# Altium footprint library Resistor - Current Sense.PcbLib: 8 footprints
Each footprint in its own frame and in the unit in brackets; x right, y up, seen from the top. Pads: shape width x height; smd on the part's side, far side on the other; paste and mask are expansions set on the pad; w line width, h text height; cw(c..) or ccw(c..) is an arc to the next point about the centre after c.
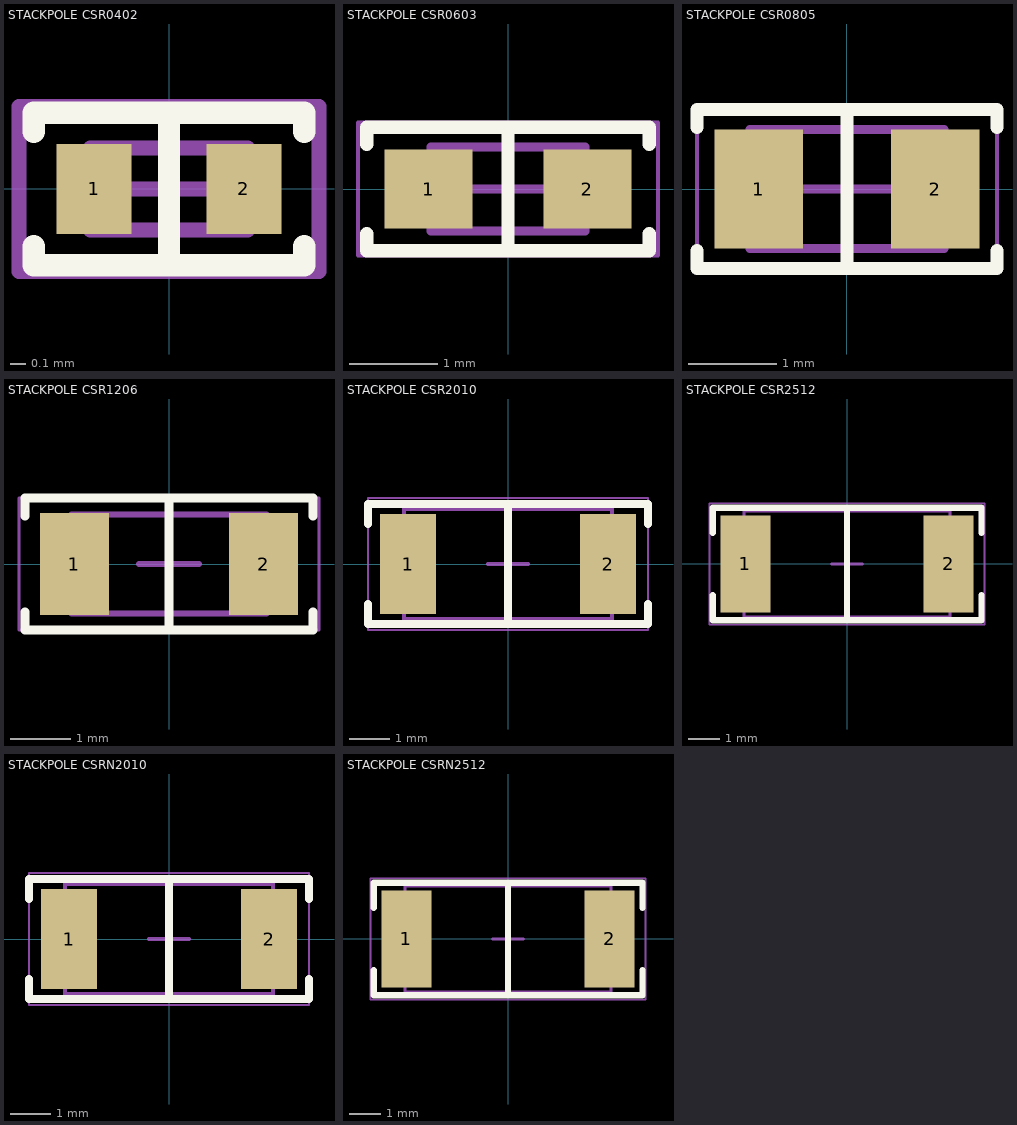
[diagram p0: the footprints below, top view; thin cyan lines are the x and y axes]

## STACKPOLE CSR0402 [mm] "Chip Resistor, 2-Leads, Body 1.0x0.5mm, IPC Medium Density"
height 0.4
pads (2):
  rect 0.5x0.6 smd: 1(-0.5,0) 2(0.5,0)
Top Overlay:
  lines w0.15: -0.9,-0.381 -0.9,-0.508 0.9,-0.508 0.9,-0.381 ; -0.9,0.381 -0.9,0.508 0.9,0.508 0.9,0.381 ; 0,-0.508 0,0.508
Mechanical 13:
  lines w0.1: -0.525,-0.275 -0.525,0.275 0.525,0.275 0.525,-0.275 -0.525,-0.275
Mechanical 15:
  lines w0.1: -0.275,0 0.275,0 ; 0,-0.275 0,0.275 ; -1,-0.55 -1,0.55 1,0.55 1,-0.55 -1,-0.55
3D body "Stackpole CSR0402 Res.STEP": height 0.32, standoff 0, extent -0.525,-0.25 0.525,0.25

## STACKPOLE CSR0603 [mm] "Chip Resistor, 2-Leads, Body 1.60x0.80mm, IPC Medium Density"
height 0.45
pads (2):
  rect 1x0.9 smd: 1(-0.9,0) 2(0.9,0)
Top Overlay:
  lines w0.15: -1.6,-0.508 -1.6,-0.7 1.6,-0.7 1.6,-0.508 ; -1.6,0.508 -1.6,0.7 1.6,0.7 1.6,0.508 ; 0,-0.7 0,0.7
Mechanical 13:
  lines w0.1: -0.875,-0.475 -0.875,0.475 0.875,0.475 0.875,-0.475 -0.875,-0.475
Mechanical 15:
  lines w0.05: -1.7,-0.75 -1.7,0.75 1.7,0.75 1.7,-0.75 -1.7,-0.75
  lines w0.1: -0.475,0 0.475,0 ; 0,-0.475 0,0.475
3D body "Stackpole CSR0603 Res.STEP": height 0.45, standoff 0, extent -0.85,-0.4 0.85,0.4

## STACKPOLE CSR0805 [mm] "Chip Resistor, 2-Leads, Body 2.00x1.25mm, IPC Medium Density"
height 0.7
pads (2):
  rect 1x1.35 smd: 1(-1,0) 2(1,0)
Top Overlay:
  lines w0.15: -1.7,-0.7 -1.7,-0.9 1.7,-0.9 1.7,-0.7 ; -1.7,0.7 -1.7,0.9 1.7,0.9 1.7,0.7 ; 0,-0.9 0,0.9
Mechanical 13:
  lines w0.1: -1.1,-0.675 1.1,-0.675 1.1,0.675 -1.1,0.675 -1.1,-0.675
Mechanical 15:
  lines w0.05: -1.7,-0.95 1.7,-0.95 1.7,0.95 -1.7,0.95 -1.7,-0.95
  lines w0.1: -0.5,0 0.5,0 ; 0,-0.5 0,0.5
3D body "Stackpole CSR0805 Res.STEP": height 0.55, standoff 0, extent -1.05,-0.625 1.05,0.625

## STACKPOLE CSR1206 [mm] "Chip Resistor, 2-Leads, Body 3.13x1.55mm, IPC Medium Density"
height 0.7
pads (2):
  rect 1.15x1.7 smd: 1(-1.575,0) 2(1.575,0)
Top Overlay:
  lines w0.15: -2.4,-0.8 -2.4,-1.1 2.4,-1.1 2.4,-0.8 ; -2.4,0.8 -2.4,1.1 2.4,1.1 2.4,0.8 ; 0,-1.1 0,1.1
Mechanical 13:
  lines w0.1: -1.625,-0.825 1.625,-0.825 1.625,0.825 -1.625,0.825 -1.625,-0.825
Mechanical 15:
  lines w0.05: -2.5,-1.1 2.5,-1.1 2.5,1.1 -2.5,1.1 -2.5,-1.1
  lines w0.1: -0.5,0 0.5,0 ; 0,-0.5 0,0.5
3D body "Stackpole CSR1206 Res.STEP": height 0.55, standoff 0, extent -1.6,-0.775 1.6,0.775

## STACKPOLE CSR2010 [mm] "Chip Resistor, 2-Leads, Body 5.00x2.54mm, IPC Medium Density"
height 0.65
pads (2):
  rect 1.4x2.5 smd: 1(-2.5,0) 2(2.5,0)
Top Overlay:
  lines w0.2: -3.5,-1 -3.5,-1.5 3.5,-1.5 3.5,-1 ; -3.5,1 -3.5,1.5 3.5,1.5 3.5,1 ; 0,-1.5 0,1.5
Mechanical 13:
  lines w0.1: -2.6,-1.37 -2.6,1.37 2.6,1.37 2.6,-1.37 ; -2.6,-1.37 2.6,-1.37 ; -2.6,-1.37 2.6,-1.37
Mechanical 15:
  lines w0.05: -3.5,-1.65 -3.5,1.65 3.5,1.65 3.5,-1.65 -3.5,-1.65
  lines w0.1: -0.5,0 0.5,0 ; 0,-0.5 0,0.5
3D body "Stackpole CSR2010 Res.STEP": height 0.5, standoff 0, extent -2.575,-1.27 2.575,1.27

## STACKPOLE CSR2512 [mm] "Chip Resistor, 2-Leads, Body 6.40x3.20mm, IPC Medium Density"
height 0.65
pads (2):
  rect 1.6x3.1 smd: 1(-3.25,0) 2(3.25,0)
Top Overlay:
  lines w0.2: -4.3,-1 -4.3,-1.8 4.3,-1.8 4.3,-1 ; -4.3,1 -4.3,1.8 4.3,1.8 4.3,1 ; 0,-1.8 0,1.8
Mechanical 13:
  lines w0.1: -3.3,-1.7 -3.3,1.7 3.3,1.7 3.3,-1.7 -3.3,-1.7
Mechanical 15:
  lines w0.05: -4.4,-1.95 -4.4,1.95 4.4,1.95 4.4,-1.95 -4.4,-1.95
  lines w0.1: -0.5,0 0.5,0 ; 0,-0.5 0,0.5
3D body "Stackpole CSR2512 Res.STEP": height 0.5, standoff 0, extent -3.275,-1.6 3.275,1.6

## STACKPOLE CSRN2010 [mm] "Chip Resistor, 2-Leads, Body 5.00x2.54mm, IPC Medium Density"
height 0.65
pads (2):
  rect 1.4x2.5 smd: 1(-2.5,0) 2(2.5,0)
Top Overlay:
  lines w0.2: -3.5,-1 -3.5,-1.5 3.5,-1.5 3.5,-1 ; -3.5,1 -3.5,1.5 3.5,1.5 3.5,1 ; 0,-1.5 0,1.5
Mechanical 13:
  lines w0.1: -2.6,-1.37 -2.6,1.37 2.6,1.37 2.6,-1.37 ; -2.6,-1.37 2.6,-1.37 ; -2.6,-1.37 2.6,-1.37
Mechanical 15:
  lines w0.05: -3.5,-1.65 -3.5,1.65 3.5,1.65 3.5,-1.65 -3.5,-1.65
  lines w0.1: -0.5,0 0.5,0 ; 0,-0.5 0,0.5
3D body "Stackpole CSRN2010 Res.STEP": height 0.6, standoff 0, extent -2.575,-1.225 2.575,1.225

## STACKPOLE CSRN2512 [mm] "Chip Resistor, 2-Leads, Body 6.40x3.20mm, IPC Medium Density"
height 0.65
pads (2):
  rect 1.6x3.1 smd: 1(-3.25,0) 2(3.25,0)
Top Overlay:
  lines w0.2: -4.3,-1 -4.3,-1.8 4.3,-1.8 4.3,-1 ; -4.3,1 -4.3,1.8 4.3,1.8 4.3,1 ; 0,-1.8 0,1.8
Mechanical 13:
  lines w0.1: -3.3,-1.7 -3.3,1.7 3.3,1.7 3.3,-1.7 -3.3,-1.7
Mechanical 15:
  lines w0.05: -4.4,-1.95 -4.4,1.95 4.4,1.95 4.4,-1.95 -4.4,-1.95
  lines w0.1: -0.5,0 0.5,0 ; 0,-0.5 0,0.5
3D body "Stackpole CSRN2512 Res.STEP": height 0.6, standoff 0, extent -3.25,-1.575 3.25,1.575